# Altium schematic symbol library Other-SHT30-DIS-B10KS.SchLib: 1 symbol
Pins are listed as number, name and electrical type; pins without a type are passive.

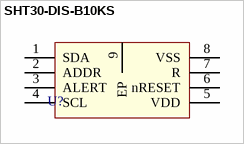
[diagram p0: symbol SHT30-DIS-B10KS]

## SHT30-DIS-B10KS
designator U?  (no BOM)
pins: 1 SDA, 2 ADDR, 3 ALERT, 4 SCL, 5 VDD, 6 nRESET, 7 R, 8 VSS, 9 EP